# Altium footprint library Switch.PcbLib: 7 footprints
Each footprint in its own frame and in the unit in brackets; x right, y up, seen from the top. Pads: shape width x height; smd on the part's side, far side on the other; paste and mask are expansions set on the pad; w line width, h text height; cw(c..) or ccw(c..) is an arc to the next point about the centre after c.
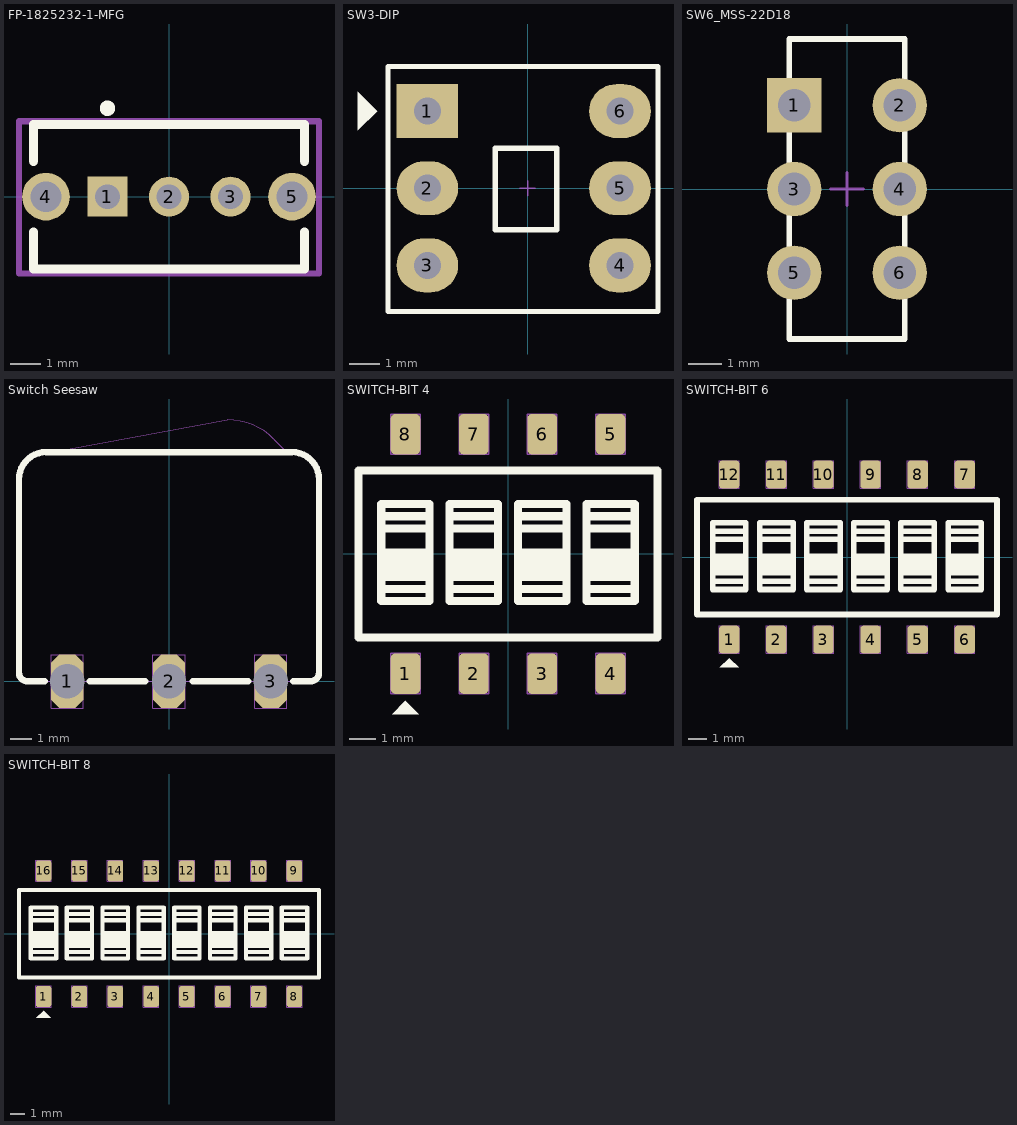
[diagram p0: the footprints below, top view; thin cyan lines are the x and y axes]

## FP-1825232-1-MFG [mm]
height 7.5
pads (5):
  rect 1.3x1.3 hole 0.8 paste-1000 mask+0: 1(-2,0)
  round 1.3 hole 0.8 paste-1000 mask+0: 2(0,0) 3(2,0)
  round 1.55 hole 1 paste-1000 mask+0: 4(-4,0) 5(4,0)
Top Overlay:
  circle w0.25: c-2,2.875 r0.125
  lines w0.3: -4.4,-1.15 -4.4,-2.35 4.4,-2.35 4.4,-1.15 ; -4.4,1.15 -4.4,2.35 4.4,2.35 4.4,1.15
Top HCB:
  lines w0.2: -4.875,-2.5 -4.875,2.45 4.875,2.45 4.875,-2.5 -4.875,-2.5
Mechanical 16:
  lines w0.1: -0.5,0 0.5,0 ; 0,-0.5 0,0.5
3D body "Switch_TE_Connectivity_1825232-1_eec.STEP": height 0.25, standoff 0, extent -4.875,-2.5 4.875,5.4

## SW3-DIP [mil] "SW DTDP - 6Pin 260x300x300 mil"
pads (6):
  rect 80x70 hole 35: 1(-130,100)
  oval 80x70 hole 35: 2(-130,0) 3(-130,-100) 4(120,-100) 5(120,0) 6(120,100)
Top Overlay:
  region: -220,125 -195,100 -220,75
  lines w7: -181.1,-160 -181.1,158 169.29,158 169.29,-160 -181.1,-160 ; -42,-54 -42,52 38,52 38,-54 -42,-54
Top HCB:
  lines w1.97: -9.84,0 9.84,0 ; 0,-9.84 0,9.84
3D body "User Library-PSM1-0-0.STEP": height 532.1, standoff -137.19, extent -163.48,-159.48 151.48,155.48

## SW6_MSS-22D18 [mm]
pads (6):
  rect 1.65x1.65 hole 1: 1(-1.6,2.54)
  round 1.65 hole 1: 2(1.6,2.54) 3(-1.6,0) 4(1.6,0) 5(-1.6,-2.54) 6(1.6,-2.54)
Top Overlay:
  lines w0.178: -1.75,-4.55 1.75,-4.55 1.75,4.55 -1.75,4.55 -1.75,-4.55
Mechanical 15:
  lines w0.1: -0.5,0 0.5,0 ; 0,-0.5 0,0.5
3D body "User Library-MMP221.STEP": height 5.5, standoff -2.95, extent -1.8,-4.5 1.8,4.5

## Switch Seesaw [mm]
pads (3):
  oct 1.5x2.5 hole 1.6 square paste+0.1: 1(-4.75,0) 2(0,0) 3(4.75,0)
Top Overlay:
  lines w0.3: -5.8,0 -6.6,0 cw(c-6.6,0.4) -7,0.4 -7,9.43 cw(c-5.73,9.43) -5.73,10.7 5.73,10.7 cw(c5.73,9.43) 7,9.43 7,0.4 cw(c6.6,0.4) 6.6,0 5.8,0 ; -3.7,0 -1.1,0 ; 1.1,0 3.7,0
Top HCB:
  lines w0.05: -5.5,0 -6.6,0 cw(c-6.6,0.4) -7,0.4 -7,9.43 cw(c-5.73,9.43) -5.73,10.7 5.73,10.7 cw(c5.73,9.43) 7,9.43 7,0.4 cw(c6.6,0.4) 6.6,0 5.5,0 ; -5.5,10.7 2.73,12.2 cw(c2.73,9.134) 4.898,11.302 5.5,10.7 ; -4,0 -0.75,0 ; 0.75,0 4,0 ; -5.5,-1.25 -4,-1.25 -4,1.25 -5.5,1.25 -5.5,-1.25 ; -0.75,-1.25 0.75,-1.25 0.75,1.25 -0.75,1.25 -0.75,-1.25 ; 4,-1.25 5.5,-1.25 5.5,1.25 4,1.25 4,-1.25
  text "OFF" at 1.697,2.18 h1
  text "ON" at -3.065,2.18 h1
  text "1" at -4.868,-0.322 h1
  text "2" at -0.163,-0.322 h1
  text "3" at 4.541,-0.317 h1
3D body "N�t ?n.STEP": height 9.75, standoff -5.2, extent -7.5,-1.016 7.5,16.167

## SWITCH-BIT 4 [mm]
pads (8):
  rrect30% 1.1x1.5 smd mask+0.07: 1(-3.81,-4.45) 2(-1.27,-4.45) 3(1.27,-4.45) 4(3.81,-4.45) 5(3.81,4.45) 6(1.27,4.45) 7(-1.27,4.45) 8(-3.81,4.45)
Top Overlay:
  rectangle: 0.47,-0.85 2.07,0.05
  rectangle: -2.07,-0.85 -0.47,0.05
  rectangle: -4.61,-0.85 -3.01,0.05
  rectangle: 3.01,-0.85 4.61,0.05
  region: -3.81,-5.45 -4.31,-5.95 -3.31,-5.95
  lines w0.3: -4.71,-1.3 -2.91,-1.3 ; -4.71,0.95 -2.91,0.95 ; -4.71,1.4 -2.91,1.4 ; -2.17,-1.3 -0.37,-1.3 ; -2.17,0.95 -0.37,0.95 ; -2.17,1.4 -0.37,1.4 ; 0.37,-1.3 2.17,-1.3 ; 0.37,0.95 2.17,0.95 ; 0.37,1.4 2.17,1.4 ; 2.91,-1.3 4.71,-1.3 ; 2.91,0.95 4.71,0.95 ; 2.91,1.4 4.71,1.4 ; -5.55,-3.1 5.55,-3.1 5.55,3.1 -5.55,3.1 -5.55,-3.1 ; -4.71,-1.75 -4.71,1.85 -2.91,1.85 -2.91,-1.75 -4.71,-1.75 ; -4.61,-0.85 -4.61,0.05 -3.01,0.05 -3.01,-0.85 -4.61,-0.85 ; -2.17,-1.75 -2.17,1.85 -0.37,1.85 -0.37,-1.75 -2.17,-1.75 ; -2.07,-0.85 -2.07,0.05 -0.47,0.05 -0.47,-0.85 -2.07,-0.85 ; 0.37,-1.75 2.17,-1.75 2.17,1.85 0.37,1.85 0.37,-1.75 ; 0.47,-0.85 2.07,-0.85 2.07,0.05 0.47,0.05 0.47,-0.85 ; 2.91,-1.75 2.91,1.85 4.71,1.85 4.71,-1.75 2.91,-1.75 ; 3.01,-0.85 3.01,0.05 4.61,0.05 4.61,-0.85 3.01,-0.85
Top HCB:
  rectangle: 3.01,-0.85 4.61,0.05
  rectangle: 0.47,-0.85 2.07,0.05
  rectangle: -2.07,-0.85 -0.47,0.05
  rectangle: -4.61,-0.85 -3.01,0.05
  lines w0.05: -4.71,-1.3 -2.91,-1.3 ; -4.71,0.95 -2.91,0.95 ; -4.71,1.4 -2.91,1.4 ; -2.17,-1.3 -0.37,-1.3 ; -2.17,0.95 -0.37,0.95 ; -2.17,1.4 -0.37,1.4 ; 0.37,-1.3 2.17,-1.3 ; 0.37,0.95 2.17,0.95 ; 0.37,1.4 2.17,1.4 ; 2.91,-1.3 4.71,-1.3 ; 2.91,0.95 4.71,0.95 ; 2.91,1.4 4.71,1.4 ; -5.55,-3.1 5.55,-3.1 5.55,3.1 -5.55,3.1 -5.55,-3.1 ; -4.71,-1.75 -2.91,-1.75 -2.91,1.85 -4.71,1.85 -4.71,-1.75 ; -4.61,-0.85 -3.01,-0.85 -3.01,0.05 -4.61,0.05 -4.61,-0.85 ; -4.36,-5.2 -4.36,-3.7 -3.81,-3.7 -3.26,-3.7 -3.26,-5.2 -4.36,-5.2 ; -4.36,3.7 -4.36,5.2 -3.81,5.2 -3.26,5.2 -3.26,3.7 -4.36,3.7 ; -2.17,-1.75 -0.37,-1.75 -0.37,1.85 -2.17,1.85 -2.17,-1.75 ; -2.07,-0.85 -0.47,-0.85 -0.47,0.05 -2.07,0.05 -2.07,-0.85 ; -1.82,-5.2 -1.82,-3.7 -1.27,-3.7 -0.72,-3.7 -0.72,-5.2 -1.82,-5.2 ; -1.82,3.7 -1.82,5.2 -1.27,5.2 -0.72,5.2 -0.72,3.7 -1.82,3.7 ; 0.37,-1.75 2.17,-1.75 2.17,1.85 0.37,1.85 0.37,-1.75 ; 0.47,-0.85 2.07,-0.85 2.07,0.05 0.47,0.05 0.47,-0.85 ; 0.72,-5.2 0.72,-3.7 1.27,-3.7 1.82,-3.7 1.82,-5.2 0.72,-5.2 ; 0.72,3.7 0.72,5.2 1.27,5.2 1.82,5.2 1.82,3.7 0.72,3.7 ; 2.91,-1.75 4.71,-1.75 4.71,1.85 2.91,1.85 2.91,-1.75 ; 3.01,-0.85 4.61,-0.85 4.61,0.05 3.01,0.05 3.01,-0.85 ; 3.26,-5.2 3.26,-3.7 3.81,-3.7 4.36,-3.7 4.36,-5.2 3.26,-5.2 ; 3.26,3.7 3.26,5.2 3.81,5.2 4.36,5.2 4.36,3.7 3.26,3.7
  text "5" at 3.598,2.34 h1
  text "4" at 3.588,-3.07 h1
  text "8" at -4.021,2.333 h1
  text "1" at -3.928,-3.072 h1
3D body "2468734_1-1825059-7.stp": height 4.4, standoff -0.04, extent -6.07,-4.659 6.07,4.659

## SWITCH-BIT 6 [mm]
pads (12):
  rrect30% 1.1x1.5 smd mask+0.07: 1(-6.35,-4.45) 2(-3.81,-4.45) 3(-1.27,-4.45) 4(1.27,-4.45) 5(3.81,-4.45) 6(6.35,-4.45) 7(6.35,4.45) 8(3.81,4.45) 9(1.27,4.45) 10(-1.27,4.45) 11(-3.81,4.45) 12(-6.35,4.45)
Top Overlay:
  rectangle: -2.07,-0.85 -0.47,0.05
  rectangle: -4.61,-0.85 -3.01,0.05
  rectangle: -7.15,-0.85 -5.55,0.05
  rectangle: 5.55,-0.85 7.15,0.05
  rectangle: 3.01,-0.85 4.61,0.05
  rectangle: 0.47,-0.85 2.07,0.05
  region: -6.35,-5.45 -6.85,-5.95 -5.85,-5.95
  lines w0.3: -7.25,-1.3 -5.45,-1.3 ; -7.25,0.95 -5.45,0.95 ; -7.25,1.4 -5.45,1.4 ; -4.71,-1.3 -2.91,-1.3 ; -4.71,0.95 -2.91,0.95 ; -4.71,1.4 -2.91,1.4 ; -2.17,-1.3 -0.37,-1.3 ; -2.17,0.95 -0.37,0.95 ; -2.17,1.4 -0.37,1.4 ; 0.37,-1.3 2.17,-1.3 ; 0.37,0.95 2.17,0.95 ; 0.37,1.4 2.17,1.4 ; 2.91,-1.3 4.71,-1.3 ; 2.91,0.95 4.71,0.95 ; 2.91,1.4 4.71,1.4 ; 5.45,-1.3 7.25,-1.3 ; 5.45,0.95 7.25,0.95 ; 5.45,1.4 7.25,1.4 ; -8.09,-3.1 -8.09,3.1 8.09,3.1 8.09,-3.1 -8.09,-3.1 ; -7.25,-1.75 -7.25,1.85 -5.45,1.85 -5.45,-1.75 -7.25,-1.75 ; -7.15,-0.85 -7.15,0.05 -5.55,0.05 -5.55,-0.85 -7.15,-0.85 ; -4.71,-1.75 -4.71,1.85 -2.91,1.85 -2.91,-1.75 -4.71,-1.75 ; -4.61,-0.85 -4.61,0.05 -3.01,0.05 -3.01,-0.85 -4.61,-0.85 ; -2.17,-1.75 -0.37,-1.75 -0.37,1.85 -2.17,1.85 -2.17,-1.75 ; -2.07,-0.85 -0.47,-0.85 -0.47,0.05 -2.07,0.05 -2.07,-0.85 ; 0.37,-1.75 0.37,1.85 2.17,1.85 2.17,-1.75 0.37,-1.75 ; 0.47,-0.85 0.47,0.05 2.07,0.05 2.07,-0.85 0.47,-0.85 ; 2.91,-1.75 2.91,1.85 4.71,1.85 4.71,-1.75 2.91,-1.75 ; 3.01,-0.85 3.01,0.05 4.61,0.05 4.61,-0.85 3.01,-0.85 ; 5.45,-1.75 5.45,1.85 7.25,1.85 7.25,-1.75 5.45,-1.75 ; 5.55,-0.85 5.55,0.05 7.15,0.05 7.15,-0.85 5.55,-0.85
Top HCB:
  rectangle: 5.55,-0.85 7.15,0.05
  rectangle: 3.01,-0.85 4.61,0.05
  rectangle: 0.47,-0.85 2.07,0.05
  rectangle: -2.07,-0.85 -0.47,0.05
  rectangle: -4.61,-0.85 -3.01,0.05
  rectangle: -7.15,-0.85 -5.55,0.05
  lines w0.05: -7.25,-1.3 -5.45,-1.3 ; -7.25,0.95 -5.45,0.95 ; -7.25,1.4 -5.45,1.4 ; -4.71,-1.3 -2.91,-1.3 ; -4.71,0.95 -2.91,0.95 ; -4.71,1.4 -2.91,1.4 ; -2.17,-1.3 -0.37,-1.3 ; -2.17,0.95 -0.37,0.95 ; -2.17,1.4 -0.37,1.4 ; 0.37,-1.3 2.17,-1.3 ; 0.37,0.95 2.17,0.95 ; 0.37,1.4 2.17,1.4 ; 2.91,-1.3 4.71,-1.3 ; 2.91,0.95 4.71,0.95 ; 2.91,1.4 4.71,1.4 ; 5.45,-1.3 7.25,-1.3 ; 5.45,0.95 7.25,0.95 ; 5.45,1.4 7.25,1.4 ; -8.09,-3.1 -8.09,3.1 8.09,3.1 8.09,-3.1 -8.09,-3.1 ; -7.25,-1.75 -5.45,-1.75 -5.45,1.85 -7.25,1.85 -7.25,-1.75 ; -7.15,-0.85 -5.55,-0.85 -5.55,0.05 -7.15,0.05 -7.15,-0.85 ; -6.9,-5.2 -6.9,-3.7 -6.35,-3.7 -5.8,-3.7 -5.8,-5.2 -6.9,-5.2 ; -6.9,3.7 -6.9,5.2 -6.35,5.2 -5.8,5.2 -5.8,3.7 -6.9,3.7 ; -4.71,-1.75 -2.91,-1.75 -2.91,1.85 -4.71,1.85 -4.71,-1.75 ; -4.61,-0.85 -3.01,-0.85 -3.01,0.05 -4.61,0.05 -4.61,-0.85 ; -4.36,-5.2 -4.36,-3.7 -3.81,-3.7 -3.26,-3.7 -3.26,-5.2 -4.36,-5.2 ; -4.36,3.7 -4.36,5.2 -3.81,5.2 -3.26,5.2 -3.26,3.7 -4.36,3.7 ; -2.17,-1.75 -0.37,-1.75 -0.37,1.85 -2.17,1.85 -2.17,-1.75 ; -2.07,-0.85 -0.47,-0.85 -0.47,0.05 -2.07,0.05 -2.07,-0.85 ; -1.82,-5.2 -1.82,-3.7 -1.27,-3.7 -0.72,-3.7 -0.72,-5.2 -1.82,-5.2 ; -1.82,3.7 -1.82,5.2 -1.27,5.2 -0.72,5.2 -0.72,3.7 -1.82,3.7 ; 0.37,-1.75 2.17,-1.75 2.17,1.85 0.37,1.85 0.37,-1.75 ; 0.47,-0.85 2.07,-0.85 2.07,0.05 0.47,0.05 0.47,-0.85 ; 0.72,-5.2 0.72,-3.7 1.27,-3.7 1.82,-3.7 1.82,-5.2 0.72,-5.2 ; 0.72,3.7 0.72,5.2 1.27,5.2 1.82,5.2 1.82,3.7 0.72,3.7 ; 2.91,-1.75 4.71,-1.75 4.71,1.85 2.91,1.85 2.91,-1.75 ; 3.01,-0.85 4.61,-0.85 4.61,0.05 3.01,0.05 3.01,-0.85 ; 3.26,-5.2 3.26,-3.7 3.81,-3.7 4.36,-3.7 4.36,-5.2 3.26,-5.2 ; 3.26,3.7 3.26,5.2 3.81,5.2 4.36,5.2 4.36,3.7 3.26,3.7 ; 5.45,-1.75 7.25,-1.75 7.25,1.85 5.45,1.85 5.45,-1.75 ; 5.55,-0.85 7.15,-0.85 7.15,0.05 5.55,0.05 5.55,-0.85 ; 5.8,-5.2 5.8,-3.7 6.35,-3.7 6.9,-3.7 6.9,-5.2 5.8,-5.2 ; 5.8,3.7 5.8,5.2 6.35,5.2 6.9,5.2 6.9,3.7 5.8,3.7
  text "12" at -6.775,2.328 h1
  text "1" at -6.468,-3.072 h1
  text "6" at 6.033,-3.125 h1.5
  text "7" at 6.039,2.275 h1.5
3D body "418121160806.stp": height 3.75, standoff 0.05, extent -7.84,-4.85 7.84,4.85

## SWITCH-BIT 8 [mm]
height 3.7
pads (16):
  rrect30% 1.1x1.5 smd mask+0.07: 1(-8.89,-4.45) 2(-6.35,-4.45) 3(-3.81,-4.45) 4(-1.27,-4.45) 5(1.27,-4.45) 6(3.81,-4.45) 7(6.35,-4.45) 8(8.89,-4.45) 9(8.89,4.45) 10(6.35,4.45) 11(3.81,4.45) 12(1.27,4.45) 13(-1.27,4.45) 14(-3.81,4.45) 15(-6.35,4.45) 16(-8.89,4.45)
Top Overlay:
  rectangle: 5.55,-0.85 7.15,0.05
  rectangle: -2.07,-0.85 -0.47,0.05
  rectangle: -9.69,-0.85 -8.09,0.05
  rectangle: 8.09,-0.85 9.69,0.05
  rectangle: 3.01,-0.85 4.61,0.05
  rectangle: 0.47,-0.85 2.07,0.05
  rectangle: -4.61,-0.85 -3.01,0.05
  rectangle: -7.15,-0.85 -5.55,0.05
  region: -8.89,-5.45 -9.39,-5.95 -8.39,-5.95
  lines w0.3: -9.79,-1.3 -7.99,-1.3 ; -9.79,0.95 -7.99,0.95 ; -9.79,1.4 -7.99,1.4 ; -7.25,-1.3 -5.45,-1.3 ; -7.25,0.95 -5.45,0.95 ; -7.25,1.4 -5.45,1.4 ; -4.71,-1.3 -2.91,-1.3 ; -4.71,0.95 -2.91,0.95 ; -4.71,1.4 -2.91,1.4 ; -2.17,-1.3 -0.37,-1.3 ; -2.17,0.95 -0.37,0.95 ; -2.17,1.4 -0.37,1.4 ; 0.37,-1.3 2.17,-1.3 ; 0.37,0.95 2.17,0.95 ; 0.37,1.4 2.17,1.4 ; 2.91,-1.3 4.71,-1.3 ; 2.91,0.95 4.71,0.95 ; 2.91,1.4 4.71,1.4 ; 5.45,-1.3 7.25,-1.3 ; 5.45,0.95 7.25,0.95 ; 5.45,1.4 7.25,1.4 ; 7.99,-1.3 9.79,-1.3 ; 7.99,0.95 9.79,0.95 ; 7.99,1.4 9.79,1.4 ; -10.63,-3.1 10.63,-3.1 10.63,3.1 -10.63,3.1 -10.63,-3.1 ; -9.79,-1.75 -7.99,-1.75 -7.99,1.85 -9.79,1.85 -9.79,-1.75 ; -9.69,-0.85 -8.09,-0.85 -8.09,0.05 -9.69,0.05 -9.69,-0.85 ; -7.25,-1.75 -5.45,-1.75 -5.45,1.85 -7.25,1.85 -7.25,-1.75 ; -7.15,-0.85 -5.55,-0.85 -5.55,0.05 -7.15,0.05 -7.15,-0.85 ; -4.71,-1.75 -2.91,-1.75 -2.91,1.85 -4.71,1.85 -4.71,-1.75 ; -4.61,-0.85 -3.01,-0.85 -3.01,0.05 -4.61,0.05 -4.61,-0.85 ; -2.17,-1.75 -0.37,-1.75 -0.37,1.85 -2.17,1.85 -2.17,-1.75 ; -2.07,-0.85 -0.47,-0.85 -0.47,0.05 -2.07,0.05 -2.07,-0.85 ; 0.37,-1.75 2.17,-1.75 2.17,1.85 0.37,1.85 0.37,-1.75 ; 0.47,-0.85 2.07,-0.85 2.07,0.05 0.47,0.05 0.47,-0.85 ; 2.91,-1.75 4.71,-1.75 4.71,1.85 2.91,1.85 2.91,-1.75 ; 3.01,-0.85 4.61,-0.85 4.61,0.05 3.01,0.05 3.01,-0.85 ; 5.45,-1.75 7.25,-1.75 7.25,1.85 5.45,1.85 5.45,-1.75 ; 5.55,-0.85 7.15,-0.85 7.15,0.05 5.55,0.05 5.55,-0.85 ; 7.99,-1.75 9.79,-1.75 9.79,1.85 7.99,1.85 7.99,-1.75 ; 8.09,-0.85 9.69,-0.85 9.69,0.05 8.09,0.05 8.09,-0.85
Top HCB:
  drawing of 180 lines, arcs and shapes, not listed
  text "16" at -9.318,2.333 h1
  text "9" at 8.679,2.433 h1
  text "8" at 8.679,-2.967 h1
  text "1" at -9.008,-3.072 h1
3D body "418121160808.stp": height 3.75, standoff 0.05, extent -10.38,-4.85 10.38,4.85